# Altium integrated library Capacitor - Aluminium TH.IntLib: 4591 symbols (part 41 of 68)
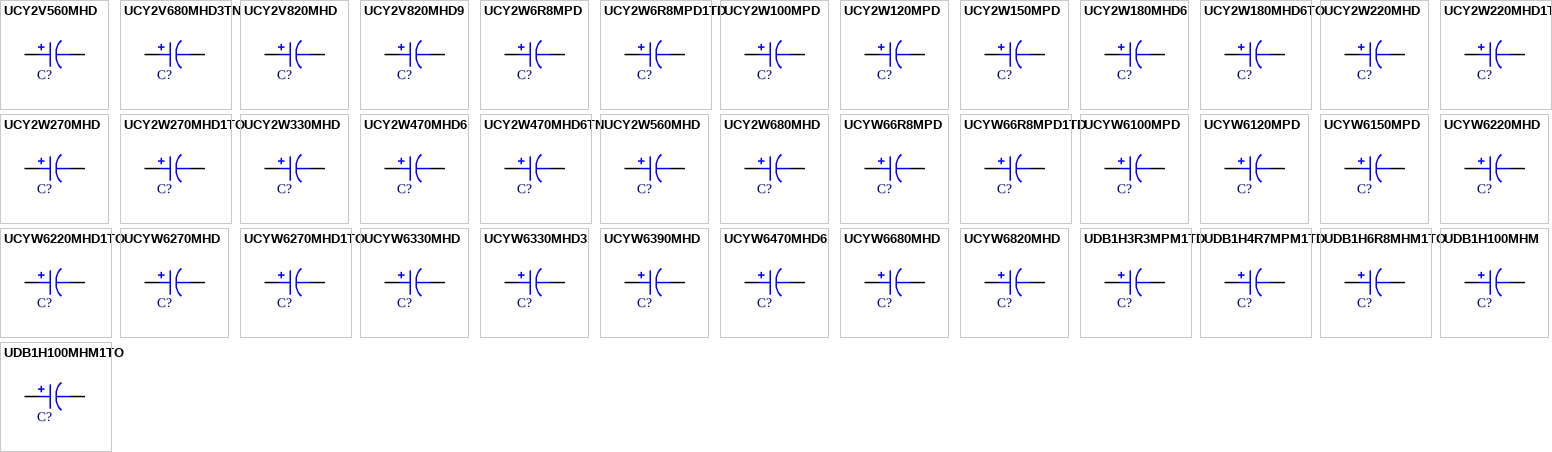
[diagram p154: symbols UCY2V560MHD to UDB1H100MHM1TO]

## UCYW6100MPD
designator C?, comment 10uF  (value not drawn)
CAP ALUM 10UF 20% 420V RADIAL; Part Number: UCYW6100MPD; Manufacturer: Nichicon; TemperatureRange: -25C ~ 105C; Type: Polar; Ripple Current: 135mA @ 120Hz; Value: 10uF; PartId: 25700; Supplier 1: Digi-Key; Supplier Part Number 1: 493-6859-ND; ComponentLink1Description: Datasheet; ComponentLink1URL: http://nichicon-us.com/english/products/pdfs/e-ucy.pdf; ComponentLink2Description: Digi-Key Listing; ComponentLink2URL: https://www.digikey.com/product-detail/en/nichicon/UCYW6100MPD/493-6859-ND/3664428; Tolerance: 20%; Voltage: 420V; Price: 0.86; Device Package: Radial, Can, 10mm
footprint CAP AL TH D10 L5 H22
pins: 1, 2

## UCYW6120MPD
designator C?, comment 12uF  (value not drawn)
CAP ALUM 12UF 20% 420V RADIAL; Part Number: UCYW6120MPD; Manufacturer: Nichicon; TemperatureRange: -25C ~ 105C; Type: Polar; Ripple Current: 150mA @ 120Hz; Value: 12uF; PartId: 25705; Supplier 1: Digi-Key; Supplier Part Number 1: 493-6983-ND; ComponentLink1Description: Datasheet; ComponentLink1URL: http://nichicon-us.com/english/products/pdfs/e-ucy.pdf; ComponentLink2Description: Digi-Key Listing; ComponentLink2URL: https://www.digikey.com/product-detail/en/nichicon/UCYW6120MPD/493-6983-ND/3664484; Tolerance: 20%; Voltage: 420V; Price: 0.92; Device Package: Radial, Can, 10mm
footprint CAP AL TH D10 L5 H22
pins: 1, 2

## UCYW6150MPD
designator C?, comment 15uF  (value not drawn)
CAP ALUM 15UF 20% 420V RADIAL; Part Number: UCYW6150MPD; Manufacturer: Nichicon; TemperatureRange: -25C ~ 105C; Type: Polar; Ripple Current: 185mA @ 120Hz; Value: 15uF; PartId: 26184; Supplier 1: Digi-Key; Supplier Part Number 1: 493-6840-ND; ComponentLink1Description: Datasheet; ComponentLink1URL: http://nichicon-us.com/english/products/pdfs/e-ucy.pdf; ComponentLink2Description: Digi-Key Listing; ComponentLink2URL: https://www.digikey.com/product-detail/en/nichicon/UCYW6150MPD/493-6840-ND/3664439; Tolerance: 20%; Voltage: 420V; Price: 1.01; Device Package: Radial, Can, 10mm
footprint CAP AL TH D10 L5 H30
pins: 1, 2

## UCYW6220MHD
designator C?, comment 22uF  (value not drawn)
CAP ALUM 22UF 20% 420V RADIAL; Part Number: UCYW6220MHD; Manufacturer: Nichicon; TemperatureRange: -25C ~ 105C; Type: Polar; Ripple Current: 285mA @ 120Hz; Value: 22uF; PartId: 23046; Supplier 1: Digi-Key; Supplier Part Number 1: 493-6981-ND; ComponentLink1Description: Datasheet; ComponentLink1URL: http://nichicon-us.com/english/products/pdfs/e-ucy.pdf; ComponentLink2Description: Digi-Key Listing; ComponentLink2URL: https://www.digikey.com/product-detail/en/nichicon/UCYW6220MHD/493-6981-ND/3664448; Tolerance: 20%; Voltage: 420V; Price: 0; Device Package: Radial, Can, 12.5mm
footprint CAP AL TH D12.5 L5 H21.5
pins: 1, 2

## UCYW6220MHD1TO
designator C?, comment 22uF  (value not drawn)
CAP ALUM 22UF 20% 420V RADIAL; Part Number: UCYW6220MHD1TO; Manufacturer: Nichicon; TemperatureRange: -25C ~ 105C; Type: Polar; Ripple Current: 285mA; Value: 22uF; PartId: 23053; Supplier 1: Digi-Key; Supplier Part Number 1: 493-13348-1-ND; ComponentLink1Description: Datasheet; ComponentLink1URL: http://nichicon-us.com/english/products/pdfs/e-ucy.pdf; ComponentLink2Description: Digi-Key Listing; ComponentLink2URL: https://www.digikey.com/product-detail/en/nichicon/UCYW6220MHD1TO/493-13348-1-ND/4333091; Tolerance: 20%; Voltage: 420V; Price: 0; Device Package: Radial, Can, 12.5mm
footprint CAP AL TH D12.5 L5 H21.5
pins: 1, 2

## UCYW6270MHD
designator C?, comment 27uF  (value not drawn)
CAP ALUM 27UF 20% 420V RADIAL; Part Number: UCYW6270MHD; Manufacturer: Nichicon; TemperatureRange: -25C ~ 105C; Type: Polar; Ripple Current: 340mA @ 120Hz; Value: 27uF; PartId: 23061; Supplier 1: Digi-Key; Supplier Part Number 1: 493-6809-ND; ComponentLink1Description: Datasheet; ComponentLink1URL: http://nichicon-us.com/english/products/pdfs/e-ucy.pdf; ComponentLink2Description: Digi-Key Listing; ComponentLink2URL: https://www.digikey.com/product-detail/en/nichicon/UCYW6270MHD/493-6809-ND/3664492; Tolerance: 20%; Voltage: 420V; Price: 0; Device Package: Radial, Can, 12.5mm
footprint CAP AL TH D12.5 L5 H21.5
pins: 1, 2

## UCYW6270MHD1TO
designator C?, comment 27uF  (value not drawn)
CAP ALUM 27UF 20% 420V RADIAL; Part Number: UCYW6270MHD1TO; Manufacturer: Nichicon; TemperatureRange: -25C ~ 105C; Type: Polar; Ripple Current: 340mA @ 120Hz; Value: 27uF; PartId: 23646; Supplier 1: Digi-Key; Supplier Part Number 1: 493-13349-3-ND; ComponentLink1Description: Datasheet; ComponentLink1URL: http://nichicon-us.com/english/products/pdfs/e-ucy.pdf; ComponentLink2Description: Digi-Key Listing; ComponentLink2URL: https://www.digikey.com/product-detail/en/nichicon/UCYW6270MHD1TO/493-13349-3-ND/4332980; Tolerance: 20%; Voltage: 420V; Price: 0.6982; Device Package: Radial, Can, 12.5mm
footprint CAP AL TH D12.5 L5 H26.5
pins: 1, 2

## UCYW6330MHD
designator C?, comment 33uF  (value not drawn)
CAP ALUM 33UF 20% 420V RADIAL; Part Number: UCYW6330MHD; Manufacturer: Nichicon; TemperatureRange: -25C ~ 105C; Type: Polar; Ripple Current: 400mA @ 120Hz; Value: 33uF; PartId: 24396; Supplier 1: Digi-Key; Supplier Part Number 1: 493-6857-ND; ComponentLink1Description: Datasheet; ComponentLink1URL: http://nichicon-us.com/english/products/pdfs/e-ucy.pdf; ComponentLink2Description: Digi-Key Listing; ComponentLink2URL: https://www.digikey.com/product-detail/en/nichicon/UCYW6330MHD/493-6857-ND/3664495; Tolerance: 20%; Voltage: 420V; Price: 1.82; Device Package: Radial, Can, 12.5mm
footprint CAP AL TH D12.5 L5 H35.5
pins: 1, 2

## UCYW6330MHD3
designator C?, comment 33uF  (value not drawn)
CAP ALUM 33UF 20% 420V RADIAL; Part Number: UCYW6330MHD3; Manufacturer: Nichicon; TemperatureRange: -25C ~ 105C; Type: Polar; Ripple Current: 385mA @ 120Hz; Value: 33uF; PartId: 26490; Supplier 1: Digi-Key; Supplier Part Number 1: 493-6896-ND; ComponentLink1Description: Datasheet; ComponentLink1URL: http://nichicon-us.com/english/products/pdfs/e-ucy.pdf; ComponentLink2Description: Digi-Key Listing; ComponentLink2URL: https://www.digikey.com/product-detail/en/nichicon/UCYW6330MHD3/493-6896-ND/3664498; Tolerance: 20%; Voltage: 420V; Price: 1.86; Device Package: Radial, Can, 16mm
footprint CAP AL TH D16 L7.5 H22
pins: 1, 2

## UCYW6390MHD
designator C?, comment 39uF  (value not drawn)
CAP ALUM 39UF 20% 420V RADIAL; Part Number: UCYW6390MHD; Manufacturer: Nichicon; TemperatureRange: -25C ~ 105C; Type: Polar; Ripple Current: 430mA @ 120Hz; Value: 39uF; PartId: 24403; Supplier 1: Digi-Key; Supplier Part Number 1: 493-6867-ND; ComponentLink1Description: Datasheet; ComponentLink1URL: http://nichicon-us.com/english/products/pdfs/e-ucy.pdf; ComponentLink2Description: Digi-Key Listing; ComponentLink2URL: https://www.digikey.com/product-detail/en/nichicon/UCYW6390MHD/493-6867-ND/3664341; Tolerance: 20%; Voltage: 420V; Price: 1.9; Device Package: Radial, Can, 12.5mm
footprint CAP AL TH D12.5 L5 H35.5
pins: 1, 2

## UCYW6470MHD6
designator C?, comment 47uF  (value not drawn)
CAP ALUM 47UF 20% 420V RADIAL; Part Number: UCYW6470MHD6; Manufacturer: Nichicon; TemperatureRange: -25C ~ 105C; Type: Polar; Ripple Current: 500mA @ 120Hz; Value: 47uF; PartId: 26706; Supplier 1: Digi-Key; Supplier Part Number 1: 493-6987-ND; ComponentLink1Description: Datasheet; ComponentLink1URL: http://nichicon-us.com/english/products/pdfs/e-ucy.pdf; ComponentLink2Description: Digi-Key Listing; ComponentLink2URL: https://www.digikey.com/product-detail/en/nichicon/UCYW6470MHD6/493-6987-ND/3664329; Tolerance: 20%; Voltage: 420V; Price: 2.28; Device Package: Radial, Can, 16mm
footprint CAP AL TH D16 L7.5 H26.5
pins: 1, 2

## UCYW6680MHD
designator C?, comment 68uF  (value not drawn)
CAP ALUM 68UF 20% 420V RADIAL; Part Number: UCYW6680MHD; Manufacturer: Nichicon; TemperatureRange: -25C ~ 105C; Type: Polar; Ripple Current: 645mA @ 120Hz; Value: 68uF; PartId: 27261; Supplier 1: Digi-Key; Supplier Part Number 1: 493-6860-ND; ComponentLink1Description: Datasheet; ComponentLink1URL: http://nichicon-us.com/english/products/pdfs/e-ucy.pdf; ComponentLink2Description: Digi-Key Listing; ComponentLink2URL: https://www.digikey.com/product-detail/en/nichicon/UCYW6680MHD/493-6860-ND/3664379; Tolerance: 20%; Voltage: 420V; Price: 2.83; Device Package: Radial, Can, 16mm
footprint CAP AL TH D16 L7.5 H33.5
pins: 1, 2

## UCYW6820MHD
designator C?, comment 82uF  (value not drawn)
CAP ALUM 82UF 20% 420V RADIAL; Part Number: UCYW6820MHD; Manufacturer: Nichicon; TemperatureRange: -25C ~ 105C; Type: Polar; Ripple Current: 725mA @ 120Hz; Value: 82uF; PartId: 27435; Supplier 1: Digi-Key; Supplier Part Number 1: 493-6940-ND; ComponentLink1Description: Datasheet; ComponentLink1URL: http://nichicon-us.com/english/products/pdfs/e-ucy.pdf; ComponentLink2Description: Digi-Key Listing; ComponentLink2URL: https://www.digikey.com/product-detail/en/nichicon/UCYW6820MHD/493-6940-ND/3664402; Tolerance: 20%; Voltage: 420V; Price: 3.3; Device Package: Radial, Can, 16mm
footprint CAP AL TH D16 L7.5 H37
pins: 1, 2

## UDB1H3R3MPM1TD
designator C?, comment 3.3uF  (value not drawn)
CAP ALUM 3.3UF 20% 50V RADIAL; Part Number: UDB1H3R3MPM1TD; Manufacturer: Nichicon; TemperatureRange: -40C ~ 85C; Type: Bi-Polar; Ripple Current: 400mA @ 6kHz; Value: 3.3uF; PartId: 25080; Supplier 1: Digi-Key; Supplier Part Number 1: 493-13361-3-ND; ComponentLink1Description: Datasheet; ComponentLink1URL: http://nichicon-us.com/english/products/pdfs/e-udb.pdf; ComponentLink2Description: Digi-Key Listing; ComponentLink2URL: https://www.digikey.com/product-detail/en/nichicon/UDB1H3R3MPM1TD/493-13361-3-ND/4332992; Tolerance: 20%; Voltage: 50V; Price: 0.2362; Device Package: Radial, Can, 10mm
footprint CAP AL TH D10 L5 H17.5
pins: 1, 2

## UDB1H4R7MPM1TD
designator C?, comment 4.7uF  (value not drawn)
CAP ALUM 4.7UF 20% 50V RADIAL; Part Number: UDB1H4R7MPM1TD; Manufacturer: Nichicon; TemperatureRange: -40C ~ 85C; Type: Bi-Polar; Ripple Current: 480mA @ 4.2Hz; Value: 4.7uF; PartId: 25463; Supplier 1: Digi-Key; Supplier Part Number 1: 493-13362-3-ND; ComponentLink1Description: Datasheet; ComponentLink1URL: http://nichicon-us.com/english/products/pdfs/e-udb.pdf; ComponentLink2Description: Digi-Key Listing; ComponentLink2URL: https://www.digikey.com/product-detail/en/nichicon/UDB1H4R7MPM1TD/493-13362-3-ND/4332993; Tolerance: 20%; Voltage: 50V; Price: 0.2584; Device Package: Radial, Can, 10mm
footprint CAP AL TH D10 L5 H22
pins: 1, 2

## UDB1H6R8MHM1TO
designator C?, comment 6.8uF  (value not drawn)
CAP ALUM 6.8UF 20% 50V RADIAL; Part Number: UDB1H6R8MHM1TO; Manufacturer: Nichicon; TemperatureRange: -40C ~ 85C; Type: Bi-Polar; Ripple Current: 540mA; Value: 6.8uF; PartId: 22954; Supplier 1: Digi-Key; Supplier Part Number 1: 493-13363-1-ND; ComponentLink1Description: Datasheet; ComponentLink1URL: http://nichicon-us.com/english/products/pdfs/e-udb.pdf; ComponentLink2Description: Digi-Key Listing; ComponentLink2URL: https://www.digikey.com/product-detail/en/nichicon/UDB1H6R8MHM1TO/493-13363-1-ND/4333106; Tolerance: 20%; Voltage: 50V; Price: 0; Device Package: Radial, Can, 12.5mm
footprint CAP AL TH D12.5 L5 H21.5
pins: 1, 2

## UDB1H100MHM
designator C?, comment 10uF  (value not drawn)
CAP ALUM 10UF 20% 50V RADIAL; Part Number: UDB1H100MHM; Manufacturer: Nichicon; TemperatureRange: -40C ~ 85C; Type: Bi-Polar; Ripple Current: 600mA @ 2kHz; Value: 10uF; PartId: 23652; Supplier 1: Digi-Key; Supplier Part Number 1: 493-14464-ND; ComponentLink1Description: Datasheet; ComponentLink1URL: http://nichicon-us.com/english/products/pdfs/e-udb.pdf; ComponentLink2Description: Digi-Key Listing; ComponentLink2URL: https://www.digikey.com/product-detail/en/nichicon/UDB1H100MHM/493-14464-ND/2539818; Tolerance: 20%; Voltage: 50V; Price: 0.85; Device Package: Radial, Can, 12.5mm
footprint CAP AL TH D12.5 L5 H26.5
pins: 1, 2

## UDB1H100MHM1TO
designator C?, comment 10uF  (value not drawn)
CAP ALUM 10UF 20% 50V RADIAL; Part Number: UDB1H100MHM1TO; Manufacturer: Nichicon; TemperatureRange: -40C ~ 85C; Type: Bi-Polar; Ripple Current: 600mA; Value: 10uF; PartId: 22972; Supplier 1: Digi-Key; Supplier Part Number 1: 493-13356-1-ND; ComponentLink1Description: Datasheet; ComponentLink1URL: http://nichicon-us.com/english/products/pdfs/e-udb.pdf; ComponentLink2Description: Digi-Key Listing; ComponentLink2URL: https://www.digikey.com/product-detail/en/nichicon/UDB1H100MHM1TO/493-13356-1-ND/4333099; Tolerance: 20%; Voltage: 50V; Price: 0; Device Package: Radial, Can, 12.5mm
footprint CAP AL TH D12.5 L5 H21.5
pins: 1, 2

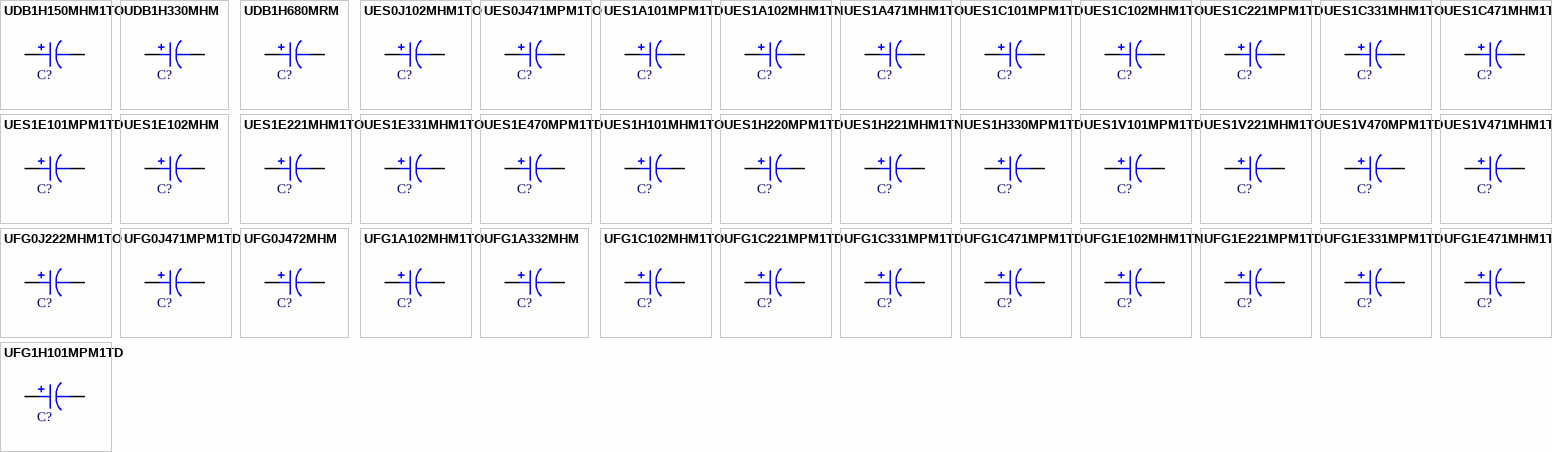
[diagram p67: symbols UDB1H150MHM1TO to UFG1H101MPM1TD]

## UDB1H150MHM1TO
designator C?, comment 15uF  (value not drawn)
CAP ALUM 15UF 20% 50V RADIAL; Part Number: UDB1H150MHM1TO; Manufacturer: Nichicon; TemperatureRange: -40C ~ 85C; Type: Bi-Polar; Ripple Current: 660mA @ 1.3kHz; Value: 15uF; PartId: 23622; Supplier 1: Digi-Key; Supplier Part Number 1: 493-13357-3-ND; ComponentLink1Description: Datasheet; ComponentLink1URL: http://nichicon-us.com/english/products/pdfs/e-udb.pdf; ComponentLink2Description: Digi-Key Listing; ComponentLink2URL: https://www.digikey.com/product-detail/en/nichicon/UDB1H150MHM1TO/493-13357-3-ND/4332988; Tolerance: 20%; Voltage: 50V; Price: 0.3333; Device Package: Radial, Can, 12.5mm
footprint CAP AL TH D12.5 L5 H26.5
pins: 1, 2

## UDB1H330MHM
designator C?, comment 33uF  (value not drawn)
CAP ALUM 33UF 20% 50V RADIAL; Part Number: UDB1H330MHM; Manufacturer: Nichicon; TemperatureRange: -40C ~ 85C; Type: Bi-Polar; Ripple Current: 800mA @ 600Hz; Value: 33uF; PartId: 27160; Supplier 1: Digi-Key; Supplier Part Number 1: 493-13082-ND; ComponentLink1Description: Datasheet; ComponentLink1URL: http://nichicon-us.com/english/products/pdfs/e-udb.pdf; ComponentLink2Description: Digi-Key Listing; ComponentLink2URL: https://www.digikey.com/product-detail/en/nichicon/UDB1H330MHM/493-13082-ND/2597780; Tolerance: 20%; Voltage: 50V; Price: 1.87; Device Package: Radial, Can, 16mm
footprint CAP AL TH D16 L7.5 H33.5
pins: 1, 2

## UDB1H680MRM
designator C?, comment 68uF  (value not drawn)
CAP ALUM 68UF 20% 50V RADIAL; Part Number: UDB1H680MRM; Manufacturer: Nichicon; TemperatureRange: -40C ~ 85C; Type: Bi-Polar; Ripple Current: 1.2A @ 290Hz; Value: 68uF; PartId: 27590; Supplier 1: Digi-Key; Supplier Part Number 1: 493-13084-ND; ComponentLink1Description: Datasheet; ComponentLink1URL: http://nichicon-us.com/english/products/pdfs/e-udb.pdf; ComponentLink2Description: Digi-Key Listing; ComponentLink2URL: https://www.digikey.com/product-detail/en/nichicon/UDB1H680MRM/493-13084-ND/2597784; Tolerance: 20%; Voltage: 50V; Price: 3.37; Device Package: Radial, Can, 22mm
footprint CAP AL TH D22 L10 H43
pins: 1, 2

## UES0J102MHM1TO
designator C?, comment 1000uF  (value not drawn)
CAP ALUM 1000UF 20% 6.3V RADIAL; Part Number: UES0J102MHM1TO; Manufacturer: Nichicon; TemperatureRange: -40C ~ 85C; Type: Bi-Polar; Value: 1000uF; PartId: 23659; Supplier 1: Digi-Key; Supplier Part Number 1: 493-10801-1-ND; ComponentLink1Description: Datasheet; ComponentLink1URL: http://nichicon-us.com/english/products/pdfs/e-ues.pdf; ComponentLink2Description: Digi-Key Listing; ComponentLink2URL: https://www.digikey.com/product-detail/en/nichicon/UES0J102MHM1TO/493-10801-1-ND/4317777; Tolerance: 20%; Voltage: 6.3V; Price: 0.91; Device Package: Radial, Can, 12.5mm
footprint CAP AL TH D12.5 L5 H26.5
pins: 1, 2

## UES0J471MPM1TO
designator C?, comment 470uF  (value not drawn)
CAP ALUM 470UF 20% 6.3V RADIAL; Part Number: UES0J471MPM1TO; Manufacturer: Nichicon; TemperatureRange: -40C ~ 85C; Type: Bi-Polar; Value: 470uF; PartId: 25479; Supplier 1: Digi-Key; Supplier Part Number 1: 493-10806-3-ND; ComponentLink1Description: Datasheet; ComponentLink1URL: http://nichicon-us.com/english/products/pdfs/e-ues.pdf; ComponentLink2Description: Digi-Key Listing; ComponentLink2URL: https://www.digikey.com/product-detail/en/nichicon/UES0J471MPM1TO/493-10806-3-ND/4318016; Tolerance: 20%; Voltage: 6.3V; Price: 0.3148; Device Package: Radial, Can, 10mm
footprint CAP AL TH D10 L5 H22
pins: 1, 2

## UES1A101MPM1TD
designator C?, comment 100uF  (value not drawn)
CAP ALUM 100UF 20% 10V RADIAL; Part Number: UES1A101MPM1TD; Manufacturer: Nichicon; TemperatureRange: -40C ~ 85C; Type: Bi-Polar; Value: 100uF; PartId: 24598; Supplier 1: Digi-Key; Supplier Part Number 1: 493-10807-3-ND; ComponentLink1Description: Datasheet; ComponentLink1URL: http://nichicon-us.com/english/products/pdfs/e-ues.pdf; ComponentLink2Description: Digi-Key Listing; ComponentLink2URL: https://www.digikey.com/product-detail/en/nichicon/UES1A101MPM1TD/493-10807-3-ND/4317384; Tolerance: 20%; Voltage: 10V; Price: 0.1736; Device Package: Radial, Can, 10mm
footprint CAP AL TH D10 L5 H14.5
pins: 1, 2

## UES1A102MHM1TN
designator C?, comment 1000uF  (value not drawn)
CAP ALUM 1000UF 20% 10V RADIAL; Part Number: UES1A102MHM1TN; Manufacturer: Nichicon; TemperatureRange: -40C ~ 85C; Type: Bi-Polar; Value: 1000uF; PartId: 26510; Supplier 1: Digi-Key; Supplier Part Number 1: 493-10808-3-ND; ComponentLink1Description: Datasheet; ComponentLink1URL: http://nichicon-us.com/english/products/pdfs/e-ues.pdf; ComponentLink2Description: Digi-Key Listing; ComponentLink2URL: https://www.digikey.com/product-detail/en/nichicon/UES1A102MHM1TN/493-10808-3-ND/4317385; Tolerance: 20%; Voltage: 10V; Price: 0.4886; Device Package: Radial, Can, 16mm
footprint CAP AL TH D16 L7.5 H26.5
pins: 1, 2

## UES1A471MHM1TO
designator C?, comment 470uF  (value not drawn)
CAP ALUM 470UF 20% 10V RADIAL; Part Number: UES1A471MHM1TO; Manufacturer: Nichicon; TemperatureRange: -40C ~ 85C; Type: Bi-Polar; Value: 470uF; PartId: 22961; Supplier 1: Digi-Key; Supplier Part Number 1: 493-10814-1-ND; ComponentLink1Description: Datasheet; ComponentLink1URL: http://nichicon-us.com/english/products/pdfs/e-ues.pdf; ComponentLink2Description: Digi-Key Listing; ComponentLink2URL: https://www.digikey.com/product-detail/en/nichicon/UES1A471MHM1TO/493-10814-1-ND/4317789; Tolerance: 20%; Voltage: 10V; Price: 0; Device Package: Radial, Can, 12.5mm
footprint CAP AL TH D12.5 L5 H21.5
pins: 1, 2

## UES1C101MPM1TD
designator C?, comment 100uF  (value not drawn)
CAP ALUM 100UF 20% 16V RADIAL; Part Number: UES1C101MPM1TD; Manufacturer: Nichicon; TemperatureRange: -40C ~ 85C; Type: Bi-Polar; Value: 100uF; PartId: 24620; Supplier 1: Digi-Key; Supplier Part Number 1: 493-10816-3-ND; ComponentLink1Description: Datasheet; ComponentLink1URL: http://nichicon-us.com/english/products/pdfs/e-ues.pdf; ComponentLink2Description: Digi-Key Listing; ComponentLink2URL: https://www.digikey.com/product-detail/en/nichicon/UES1C101MPM1TD/493-10816-3-ND/4317393; Tolerance: 20%; Voltage: 16V; Price: 0.2038; Device Package: Radial, Can, 10mm
footprint CAP AL TH D10 L5 H14.5
pins: 1, 2

## UES1C102MHM1TO
designator C?, comment 1000uF  (value not drawn)
CAP ALUM 1000UF 20% 16V RADIAL; Part Number: UES1C102MHM1TO; Manufacturer: Nichicon; TemperatureRange: -40C ~ 85C; Type: Bi-Polar; Value: 1000uF; PartId: 26518; Supplier 1: Digi-Key; Supplier Part Number 1: 493-10817-3-ND; ComponentLink1Description: Datasheet; ComponentLink1URL: http://nichicon-us.com/english/products/pdfs/e-ues.pdf; ComponentLink2Description: Digi-Key Listing; ComponentLink2URL: https://www.digikey.com/product-detail/en/nichicon/UES1C102MHM1TO/493-10817-3-ND/4317394; Tolerance: 20%; Voltage: 16V; Price: 0.6304; Device Package: Radial, Can, 16mm
footprint CAP AL TH D16 L7.5 H26.5
pins: 1, 2

## UES1C221MPM1TD
designator C?, comment 220uF  (value not drawn)
CAP ALUM 220UF 20% 16V RADIAL; Part Number: UES1C221MPM1TD; Manufacturer: Nichicon; TemperatureRange: -40C ~ 85C; Type: Bi-Polar; Value: 220uF; PartId: 25480; Supplier 1: Digi-Key; Supplier Part Number 1: 493-10819-3-ND; ComponentLink1Description: Datasheet; ComponentLink1URL: http://nichicon-us.com/english/products/pdfs/e-ues.pdf; ComponentLink2Description: Digi-Key Listing; ComponentLink2URL: https://www.digikey.com/product-detail/en/nichicon/UES1C221MPM1TD/493-10819-3-ND/4317396; Tolerance: 20%; Voltage: 16V; Price: 0.3184; Device Package: Radial, Can, 10mm
footprint CAP AL TH D10 L5 H22
pins: 1, 2

## UES1C331MHM1TO
designator C?, comment 330uF  (value not drawn)
CAP ALUM 330UF 20% 16V RADIAL; Part Number: UES1C331MHM1TO; Manufacturer: Nichicon; TemperatureRange: -40C ~ 85C; Type: Bi-Polar; Value: 330uF; PartId: 22962; Supplier 1: Digi-Key; Supplier Part Number 1: 493-10821-1-ND; ComponentLink1Description: Datasheet; ComponentLink1URL: http://nichicon-us.com/english/products/pdfs/e-ues.pdf; ComponentLink2Description: Digi-Key Listing; ComponentLink2URL: https://www.digikey.com/product-detail/en/nichicon/UES1C331MHM1TO/493-10821-1-ND/4317796; Tolerance: 20%; Voltage: 16V; Price: 0; Device Package: Radial, Can, 12.5mm
footprint CAP AL TH D12.5 L5 H21.5
pins: 1, 2

## UES1C471MHM1TO
designator C?, comment 470uF  (value not drawn)
CAP ALUM 470UF 20% 16V RADIAL; Part Number: UES1C471MHM1TO; Manufacturer: Nichicon; TemperatureRange: -40C ~ 85C; Type: Bi-Polar; Value: 470uF; PartId: 23626; Supplier 1: Digi-Key; Supplier Part Number 1: 493-10823-3-ND; ComponentLink1Description: Datasheet; ComponentLink1URL: http://nichicon-us.com/english/products/pdfs/e-ues.pdf; ComponentLink2Description: Digi-Key Listing; ComponentLink2URL: https://www.digikey.com/product-detail/en/nichicon/UES1C471MHM1TO/493-10823-3-ND/4317400; Tolerance: 20%; Voltage: 16V; Price: 0.3495; Device Package: Radial, Can, 12.5mm
footprint CAP AL TH D12.5 L5 H26.5
pins: 1, 2

## UES1E101MPM1TD
designator C?, comment 100uF  (value not drawn)
CAP ALUM 100UF 20% 25V RADIAL; Part Number: UES1E101MPM1TD; Manufacturer: Nichicon; TemperatureRange: -40C ~ 85C; Type: Bi-Polar; Value: 100uF; PartId: 25079; Supplier 1: Digi-Key; Supplier Part Number 1: 493-10825-3-ND; ComponentLink1Description: Datasheet; ComponentLink1URL: http://nichicon-us.com/english/products/pdfs/e-ues.pdf; ComponentLink2Description: Digi-Key Listing; ComponentLink2URL: https://www.digikey.com/product-detail/en/nichicon/UES1E101MPM1TD/493-10825-3-ND/4317402; Tolerance: 20%; Voltage: 25V; Price: 0.2336; Device Package: Radial, Can, 10mm
footprint CAP AL TH D10 L5 H17.5
pins: 1, 2

## UES1E102MHM
designator C?, comment 1000uF  (value not drawn)
CAP ALUM 1000UF 20% 25V RADIAL; Part Number: UES1E102MHM; Manufacturer: Nichicon; TemperatureRange: -40C ~ 85C; Type: Bi-Polar; Value: 1000uF; PartId: 27006; Supplier 1: Digi-Key; Supplier Part Number 1: 493-10826-ND; ComponentLink1Description: Datasheet; ComponentLink1URL: http://nichicon-us.com/english/products/pdfs/e-ues.pdf; ComponentLink2Description: Digi-Key Listing; ComponentLink2URL: https://www.digikey.com/product-detail/en/nichicon/UES1E102MHM/493-10826-ND/2597891; Tolerance: 20%; Voltage: 25V; Price: 1.38; Device Package: Radial, Can, 16mm
footprint CAP AL TH D16 L7.5 H33.5
pins: 1, 2

## UES1E221MHM1TO
designator C?, comment 220uF  (value not drawn)
CAP ALUM 220UF 20% 25V RADIAL; Part Number: UES1E221MHM1TO; Manufacturer: Nichicon; TemperatureRange: -40C ~ 85C; Type: Bi-Polar; Value: 220uF; PartId: 23624; Supplier 1: Digi-Key; Supplier Part Number 1: 493-10828-3-ND; ComponentLink1Description: Datasheet; ComponentLink1URL: http://nichicon-us.com/english/products/pdfs/e-ues.pdf; ComponentLink2Description: Digi-Key Listing; ComponentLink2URL: https://www.digikey.com/product-detail/en/nichicon/UES1E221MHM1TO/493-10828-3-ND/4317404; Tolerance: 20%; Voltage: 25V; Price: 0.3432; Device Package: Radial, Can, 12.5mm
footprint CAP AL TH D12.5 L5 H26.5
pins: 1, 2

## UES1E331MHM1TO
designator C?, comment 330uF  (value not drawn)
CAP ALUM 330UF 20% 25V RADIAL; Part Number: UES1E331MHM1TO; Manufacturer: Nichicon; TemperatureRange: -40C ~ 85C; Type: Bi-Polar; Value: 330uF; PartId: 23673; Supplier 1: Digi-Key; Supplier Part Number 1: 493-10830-1-ND; ComponentLink1Description: Datasheet; ComponentLink1URL: http://nichicon-us.com/english/products/pdfs/e-ues.pdf; ComponentLink2Description: Digi-Key Listing; ComponentLink2URL: https://www.digikey.com/product-detail/en/nichicon/UES1E331MHM1TO/493-10830-1-ND/4317804; Tolerance: 20%; Voltage: 25V; Price: 0.99; Device Package: Radial, Can, 12.5mm
footprint CAP AL TH D12.5 L5 H26.5
pins: 1, 2

## UES1E470MPM1TD
designator C?, comment 47uF  (value not drawn)
CAP ALUM 47UF 20% 25V RADIAL; Part Number: UES1E470MPM1TD; Manufacturer: Nichicon; TemperatureRange: -40C ~ 85C; Type: Bi-Polar; Value: 47uF; PartId: 24621; Supplier 1: Digi-Key; Supplier Part Number 1: 493-10831-3-ND; ComponentLink1Description: Datasheet; ComponentLink1URL: http://nichicon-us.com/english/products/pdfs/e-ues.pdf; ComponentLink2Description: Digi-Key Listing; ComponentLink2URL: https://www.digikey.com/product-detail/en/nichicon/UES1E470MPM1TD/493-10831-3-ND/4317407; Tolerance: 20%; Voltage: 25V; Price: 0.2052; Device Package: Radial, Can, 10mm
footprint CAP AL TH D10 L5 H14.5
pins: 1, 2

## UES1H101MHM1TO
designator C?, comment 100uF  (value not drawn)
CAP ALUM 100UF 20% 50V RADIAL; Part Number: UES1H101MHM1TO; Manufacturer: Nichicon; TemperatureRange: -40C ~ 85C; Type: Bi-Polar; Value: 100uF; PartId: 23631; Supplier 1: Digi-Key; Supplier Part Number 1: 493-10836-3-ND; ComponentLink1Description: Datasheet; ComponentLink1URL: http://nichicon-us.com/english/products/pdfs/e-ues.pdf; ComponentLink2Description: Digi-Key Listing; ComponentLink2URL: https://www.digikey.com/product-detail/en/nichicon/UES1H101MHM1TO/493-10836-3-ND/4317412; Tolerance: 20%; Voltage: 50V; Price: 0.4379; Device Package: Radial, Can, 12.5mm
footprint CAP AL TH D12.5 L5 H26.5
pins: 1, 2

## UES1H220MPM1TD
designator C?, comment 22uF  (value not drawn)
CAP ALUM 22UF 20% 50V RADIAL; Part Number: UES1H220MPM1TD; Manufacturer: Nichicon; TemperatureRange: -40C ~ 85C; Type: Bi-Polar; Value: 22uF; PartId: 24619; Supplier 1: Digi-Key; Supplier Part Number 1: 493-10837-3-ND; ComponentLink1Description: Datasheet; ComponentLink1URL: http://nichicon-us.com/english/products/pdfs/e-ues.pdf; ComponentLink2Description: Digi-Key Listing; ComponentLink2URL: https://www.digikey.com/product-detail/en/nichicon/UES1H220MPM1TD/493-10837-3-ND/4317413; Tolerance: 20%; Voltage: 50V; Price: 0.1994; Device Package: Radial, Can, 10mm
footprint CAP AL TH D10 L5 H14.5
pins: 1, 2

## UES1H221MHM1TN
designator C?, comment 220uF  (value not drawn)
CAP ALUM 220UF 20% 50V RADIAL; Part Number: UES1H221MHM1TN; Manufacturer: Nichicon; TemperatureRange: -40C ~ 85C; Type: Bi-Polar; Value: 220uF; PartId: 26525; Supplier 1: Digi-Key; Supplier Part Number 1: 493-10838-3-ND; ComponentLink1Description: Datasheet; ComponentLink1URL: http://nichicon-us.com/english/products/pdfs/e-ues.pdf; ComponentLink2Description: Digi-Key Listing; ComponentLink2URL: https://www.digikey.com/product-detail/en/nichicon/UES1H221MHM1TN/493-10838-3-ND/4317414; Tolerance: 20%; Voltage: 50V; Price: 0.6998; Device Package: Radial, Can, 16mm
footprint CAP AL TH D16 L7.5 H26.5
pins: 1, 2

## UES1H330MPM1TD
designator C?, comment 33uF  (value not drawn)
CAP ALUM 33UF 20% 50V RADIAL; Part Number: UES1H330MPM1TD; Manufacturer: Nichicon; TemperatureRange: -40C ~ 85C; Type: Bi-Polar; Value: 33uF; PartId: 25072; Supplier 1: Digi-Key; Supplier Part Number 1: 493-10840-3-ND; ComponentLink1Description: Datasheet; ComponentLink1URL: http://nichicon-us.com/english/products/pdfs/e-ues.pdf; ComponentLink2Description: Digi-Key Listing; ComponentLink2URL: https://www.digikey.com/product-detail/en/nichicon/UES1H330MPM1TD/493-10840-3-ND/4317416; Tolerance: 20%; Voltage: 50V; Price: 0.232; Device Package: Radial, Can, 10mm
footprint CAP AL TH D10 L5 H17.5
pins: 1, 2

## UES1V101MPM1TD
designator C?, comment 100uF  (value not drawn)
CAP ALUM 100UF 20% 35V RADIAL; Part Number: UES1V101MPM1TD; Manufacturer: Nichicon; TemperatureRange: -40C ~ 85C; Type: Bi-Polar; Value: 100uF; PartId: 25478; Supplier 1: Digi-Key; Supplier Part Number 1: 493-10847-3-ND; ComponentLink1Description: Datasheet; ComponentLink1URL: http://nichicon-us.com/english/products/pdfs/e-ues.pdf; ComponentLink2Description: Digi-Key Listing; ComponentLink2URL: https://www.digikey.com/product-detail/en/nichicon/UES1V101MPM1TD/493-10847-3-ND/4317422; Tolerance: 20%; Voltage: 35V; Price: 0.3148; Device Package: Radial, Can, 10mm
footprint CAP AL TH D10 L5 H22
pins: 1, 2

## UES1V221MHM1TO
designator C?, comment 220uF  (value not drawn)
CAP ALUM 220UF 20% 35V RADIAL; Part Number: UES1V221MHM1TO; Manufacturer: Nichicon; TemperatureRange: -40C ~ 85C; Type: Bi-Polar; Value: 220uF; PartId: 23690; Supplier 1: Digi-Key; Supplier Part Number 1: 493-10849-1-ND; ComponentLink1Description: Datasheet; ComponentLink1URL: http://nichicon-us.com/english/products/pdfs/e-ues.pdf; ComponentLink2Description: Digi-Key Listing; ComponentLink2URL: https://www.digikey.com/product-detail/en/nichicon/UES1V221MHM1TO/493-10849-1-ND/4317822; Tolerance: 20%; Voltage: 35V; Price: 1.04; Device Package: Radial, Can, 12.5mm
footprint CAP AL TH D12.5 L5 H26.5
pins: 1, 2

## UES1V470MPM1TD
designator C?, comment 47uF  (value not drawn)
CAP ALUM 47UF 20% 35V RADIAL; Part Number: UES1V470MPM1TD; Manufacturer: Nichicon; TemperatureRange: -40C ~ 85C; Type: Bi-Polar; Value: 47uF; PartId: 24633; Supplier 1: Digi-Key; Supplier Part Number 1: 493-10852-3-ND; ComponentLink1Description: Datasheet; ComponentLink1URL: http://nichicon-us.com/english/products/pdfs/e-ues.pdf; ComponentLink2Description: Digi-Key Listing; ComponentLink2URL: https://www.digikey.com/product-detail/en/nichicon/UES1V470MPM1TD/493-10852-3-ND/4317427; Tolerance: 20%; Voltage: 35V; Price: 0.229; Device Package: Radial, Can, 10mm
footprint CAP AL TH D10 L5 H14.5
pins: 1, 2

## UES1V471MHM1TN
designator C?, comment 470uF  (value not drawn)
CAP ALUM 470UF 20% 35V RADIAL; Part Number: UES1V471MHM1TN; Manufacturer: Nichicon; TemperatureRange: -40C ~ 85C; Type: Bi-Polar; Value: 470uF; PartId: 26519; Supplier 1: Digi-Key; Supplier Part Number 1: 493-10853-3-ND; ComponentLink1Description: Datasheet; ComponentLink1URL: http://nichicon-us.com/english/products/pdfs/e-ues.pdf; ComponentLink2Description: Digi-Key Listing; ComponentLink2URL: https://www.digikey.com/product-detail/en/nichicon/UES1V471MHM1TN/493-10853-3-ND/4317428; Tolerance: 20%; Voltage: 35V; Price: 0.6388; Device Package: Radial, Can, 16mm
footprint CAP AL TH D16 L7.5 H26.5
pins: 1, 2

## UFG0J222MHM1TO
designator C?, comment 2200uF  (value not drawn)
CAP ALUM 2200UF 20% 6.3V RADIAL; Part Number: UFG0J222MHM1TO; Manufacturer: Nichicon; TemperatureRange: -40C ~ 85C; Type: Polar; Ripple Current: 867mA; Value: 2200uF; PartId: 23815; Supplier 1: Digi-Key; Supplier Part Number 1: 493-10908-3-ND; ComponentLink1Description: Datasheet; ComponentLink1URL: http://nichicon-us.com/english/products/pdfs/e-ufg.pdf; ComponentLink2Description: Digi-Key Listing; ComponentLink2URL: https://www.digikey.com/product-detail/en/nichicon/UFG0J222MHM1TO/493-10908-3-ND/4317437; Tolerance: 20%; Voltage: 6.3V; Price: 0.4279; Device Package: Radial, Can, 12.5mm
footprint CAP AL TH D12.5 L5 H27
pins: 1, 2

## UFG0J471MPM1TD
designator C?, comment 470uF  (value not drawn)
CAP ALUM 470UF 20% 6.3V RADIAL; Part Number: UFG0J471MPM1TD; Manufacturer: Nichicon; TemperatureRange: -40C ~ 85C; Type: Polar; Ripple Current: 470mA; Value: 470uF; PartId: 24614; Supplier 1: Digi-Key; Supplier Part Number 1: 493-10923-3-ND; ComponentLink1Description: Datasheet; ComponentLink1URL: http://nichicon-us.com/english/products/pdfs/e-ufg.pdf; ComponentLink2Description: Digi-Key Listing; ComponentLink2URL: https://www.digikey.com/product-detail/en/nichicon/UFG0J471MPM1TD/493-10923-3-ND/4317452; Tolerance: 20%; Voltage: 6.3V; Price: 0.1976; Device Package: Radial, Can, 10mm
footprint CAP AL TH D10 L5 H14.5
pins: 1, 2

## UFG0J472MHM
designator C?, comment 4700uF  (value not drawn)
CAP ALUM 4700UF 20% 6.3V RADIAL; Part Number: UFG0J472MHM; Manufacturer: Nichicon; TemperatureRange: -40C ~ 85C; Type: Polar; Ripple Current: 1.431A; Value: 4700uF; PartId: 27057; Supplier 1: Digi-Key; Supplier Part Number 1: 493-10902-ND; ComponentLink1Description: Datasheet; ComponentLink1URL: http://nichicon-us.com/english/products/pdfs/e-ufg.pdf; ComponentLink2Description: Digi-Key Listing; ComponentLink2URL: https://www.digikey.com/product-detail/en/nichicon/UFG0J472MHM/493-10902-ND/2597923; Tolerance: 20%; Voltage: 6.3V; Price: 1.58; Device Package: Radial, Can, 16mm
footprint CAP AL TH D16 L7.5 H33.5
pins: 1, 2

## UFG1A102MHM1TO
designator C?, comment 1000uF  (value not drawn)
CAP ALUM 1000UF 20% 10V RADIAL; Part Number: UFG1A102MHM1TO; Manufacturer: Nichicon; TemperatureRange: -40C ~ 85C; Type: Polar; Ripple Current: 601mA; Value: 1000uF; PartId: 23408; Supplier 1: Digi-Key; Supplier Part Number 1: 493-10912-1-ND; ComponentLink1Description: Datasheet; ComponentLink1URL: http://nichicon-us.com/english/products/pdfs/e-ufg.pdf; ComponentLink2Description: Digi-Key Listing; ComponentLink2URL: https://www.digikey.com/product-detail/en/nichicon/UFG1A102MHM1TO/493-10912-1-ND/4317839; Tolerance: 20%; Voltage: 10V; Price: 0.98; Device Package: Radial, Can, 12.5mm
footprint CAP AL TH D12.5 L5 H22
pins: 1, 2

## UFG1A332MHM
designator C?, comment 3300uF  (value not drawn)
CAP ALUM 3300UF 20% 10V RADIAL; Part Number: UFG1A332MHM; Manufacturer: Nichicon; TemperatureRange: -40C ~ 85C; Type: Polar; Ripple Current: 1.52A; Value: 3300uF; PartId: 27056; Supplier 1: Digi-Key; Supplier Part Number 1: 493-10903-ND; ComponentLink1Description: Datasheet; ComponentLink1URL: http://nichicon-us.com/english/products/pdfs/e-ufg.pdf; ComponentLink2Description: Digi-Key Listing; ComponentLink2URL: https://www.digikey.com/product-detail/en/nichicon/UFG1A332MHM/493-10903-ND/2597930; Tolerance: 20%; Voltage: 10V; Price: 1.58; Device Package: Radial, Can, 16mm
footprint CAP AL TH D16 L7.5 H33.5
pins: 1, 2

## UFG1C102MHM1TO
designator C?, comment 1000uF  (value not drawn)
CAP ALUM 1000UF 20% 16V RADIAL; Part Number: UFG1C102MHM1TO; Manufacturer: Nichicon; TemperatureRange: -40C ~ 85C; Type: Polar; Ripple Current: 723mA; Value: 1000uF; PartId: 24030; Supplier 1: Digi-Key; Supplier Part Number 1: 493-10907-1-ND; ComponentLink1Description: Datasheet; ComponentLink1URL: http://nichicon-us.com/english/products/pdfs/e-ufg.pdf; ComponentLink2Description: Digi-Key Listing; ComponentLink2URL: https://www.digikey.com/product-detail/en/nichicon/UFG1C102MHM1TO/493-10907-1-ND/4317834; Tolerance: 20%; Voltage: 16V; Price: 1.09; Device Package: Radial, Can, 12.5mm
footprint CAP AL TH D12.5 L5 H27
pins: 1, 2

## UFG1C221MPM1TD
designator C?, comment 220uF  (value not drawn)
CAP ALUM 220UF 20% 16V RADIAL; Part Number: UFG1C221MPM1TD; Manufacturer: Nichicon; TemperatureRange: -40C ~ 85C; Type: Polar; Ripple Current: 226mA; Value: 220uF; PartId: 24623; Supplier 1: Digi-Key; Supplier Part Number 1: 493-10922-3-ND; ComponentLink1Description: Datasheet; ComponentLink1URL: http://nichicon-us.com/english/products/pdfs/e-ufg.pdf; ComponentLink2Description: Digi-Key Listing; ComponentLink2URL: https://www.digikey.com/product-detail/en/nichicon/UFG1C221MPM1TD/493-10922-3-ND/4317451; Tolerance: 20%; Voltage: 16V; Price: 0.208; Device Package: Radial, Can, 10mm
footprint CAP AL TH D10 L5 H14.5
pins: 1, 2

## UFG1C331MPM1TD
designator C?, comment 330uF  (value not drawn)
CAP ALUM 330UF 20% 16V RADIAL; Part Number: UFG1C331MPM1TD; Manufacturer: Nichicon; TemperatureRange: -40C ~ 85C; Type: Polar; Ripple Current: 309mA; Value: 330uF; PartId: 25115; Supplier 1: Digi-Key; Supplier Part Number 1: 493-10921-3-ND; ComponentLink1Description: Datasheet; ComponentLink1URL: http://nichicon-us.com/english/products/pdfs/e-ufg.pdf; ComponentLink2Description: Digi-Key Listing; ComponentLink2URL: https://www.digikey.com/product-detail/en/nichicon/UFG1C331MPM1TD/493-10921-3-ND/4317450; Tolerance: 20%; Voltage: 16V; Price: 0.3093; Device Package: Radial, Can, 10mm
footprint CAP AL TH D10 L5 H17.5
pins: 1, 2

## UFG1C471MPM1TD
designator C?, comment 470uF  (value not drawn)
CAP ALUM 470UF 20% 16V RADIAL; Part Number: UFG1C471MPM1TD; Manufacturer: Nichicon; TemperatureRange: -40C ~ 85C; Type: Polar; Ripple Current: 406mA; Value: 470uF; PartId: 25808; Supplier 1: Digi-Key; Supplier Part Number 1: 493-10915-3-ND; ComponentLink1Description: Datasheet; ComponentLink1URL: http://nichicon-us.com/english/products/pdfs/e-ufg.pdf; ComponentLink2Description: Digi-Key Listing; ComponentLink2URL: https://www.digikey.com/product-detail/en/nichicon/UFG1C471MPM1TD/493-10915-3-ND/4317444; Tolerance: 20%; Voltage: 16V; Price: 0.3276; Device Package: Radial, Can, 10mm
footprint CAP AL TH D10 L5 H22
pins: 1, 2

## UFG1E102MHM1TN
designator C?, comment 1000uF  (value not drawn)
CAP ALUM 1000UF 20% 25V RADIAL; Part Number: UFG1E102MHM1TN; Manufacturer: Nichicon; TemperatureRange: -40C ~ 85C; Type: Polar; Ripple Current: 854mA; Value: 1000uF; PartId: 26795; Supplier 1: Digi-Key; Supplier Part Number 1: 493-10887-3-ND; ComponentLink1Description: Datasheet; ComponentLink1URL: http://nichicon-us.com/english/products/pdfs/e-ufg.pdf; ComponentLink2Description: Digi-Key Listing; ComponentLink2URL: https://www.digikey.com/product-detail/en/nichicon/UFG1E102MHM1TN/493-10887-3-ND/4317433; Tolerance: 20%; Voltage: 25V; Price: 0.7072; Device Package: Radial, Can, 16mm
footprint CAP AL TH D16 L7.5 H27
pins: 1, 2

## UFG1E221MPM1TD
designator C?, comment 220uF  (value not drawn)
CAP ALUM 220UF 20% 25V RADIAL; Part Number: UFG1E221MPM1TD; Manufacturer: Nichicon; TemperatureRange: -40C ~ 85C; Type: Polar; Ripple Current: 260mA; Value: 220uF; PartId: 25121; Supplier 1: Digi-Key; Supplier Part Number 1: 493-10918-3-ND; ComponentLink1Description: Datasheet; ComponentLink1URL: http://nichicon-us.com/english/products/pdfs/e-ufg.pdf; ComponentLink2Description: Digi-Key Listing; ComponentLink2URL: https://www.digikey.com/product-detail/en/nichicon/UFG1E221MPM1TD/493-10918-3-ND/4317447; Tolerance: 20%; Voltage: 25V; Price: 0.3258; Device Package: Radial, Can, 10mm
footprint CAP AL TH D10 L5 H17.5
pins: 1, 2

## UFG1E331MPM1TD
designator C?, comment 330uF  (value not drawn)
CAP ALUM 330UF 20% 25V RADIAL; Part Number: UFG1E331MPM1TD; Manufacturer: Nichicon; TemperatureRange: -40C ~ 85C; Type: Polar; Ripple Current: 351mA; Value: 330uF; PartId: 25817; Supplier 1: Digi-Key; Supplier Part Number 1: 493-10914-3-ND; ComponentLink1Description: Datasheet; ComponentLink1URL: http://nichicon-us.com/english/products/pdfs/e-ufg.pdf; ComponentLink2Description: Digi-Key Listing; ComponentLink2URL: https://www.digikey.com/product-detail/en/nichicon/UFG1E331MPM1TD/493-10914-3-ND/4317443; Tolerance: 20%; Voltage: 25V; Price: 0.3362; Device Package: Radial, Can, 10mm
footprint CAP AL TH D10 L5 H22
pins: 1, 2

## UFG1E471MHM1TO
designator C?, comment 470uF  (value not drawn)
CAP ALUM 470UF 20% 25V RADIAL; Part Number: UFG1E471MHM1TO; Manufacturer: Nichicon; TemperatureRange: -40C ~ 85C; Type: Polar; Ripple Current: 476mA; Value: 470uF; PartId: 23440; Supplier 1: Digi-Key; Supplier Part Number 1: 493-10909-1-ND; ComponentLink1Description: Datasheet; ComponentLink1URL: http://nichicon-us.com/english/products/pdfs/e-ufg.pdf; ComponentLink2Description: Digi-Key Listing; ComponentLink2URL: https://www.digikey.com/product-detail/en/nichicon/UFG1E471MHM1TO/493-10909-1-ND/4317836; Tolerance: 20%; Voltage: 25V; Price: 1.03; Device Package: Radial, Can, 12.5mm
footprint CAP AL TH D12.5 L5 H22
pins: 1, 2

## UFG1H101MPM1TD
designator C?, comment 100uF  (value not drawn)
CAP ALUM 100UF 20% 50V RADIAL; Part Number: UFG1H101MPM1TD; Manufacturer: Nichicon; TemperatureRange: -40C ~ 85C; Type: Polar; Ripple Current: 215mA; Value: 100uF; PartId: 25116; Supplier 1: Digi-Key; Supplier Part Number 1: 493-10919-3-ND; ComponentLink1Description: Datasheet; ComponentLink1URL: http://nichicon-us.com/english/products/pdfs/e-ufg.pdf; ComponentLink2Description: Digi-Key Listing; ComponentLink2URL: https://www.digikey.com/product-detail/en/nichicon/UFG1H101MPM1TD/493-10919-3-ND/4317448; Tolerance: 20%; Voltage: 50V; Price: 0.3116; Device Package: Radial, Can, 10mm
footprint CAP AL TH D10 L5 H17.5
pins: 1, 2

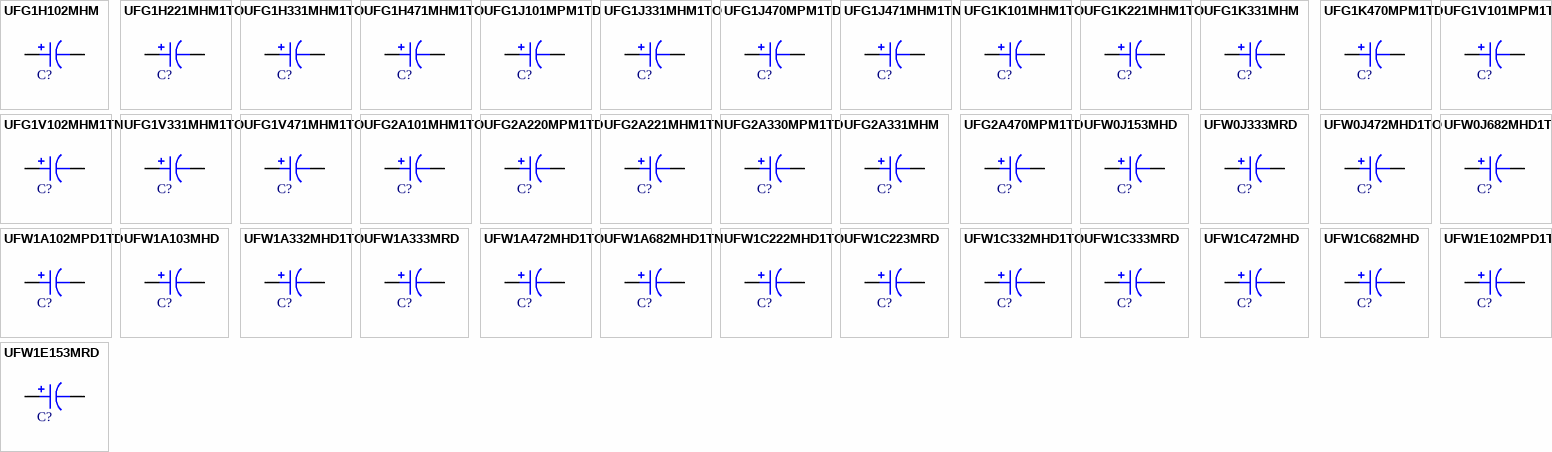
[diagram p68: symbols UFG1H102MHM to UFW1E153MRD]

## UFG1H102MHM
designator C?, comment 1000uF  (value not drawn)
CAP ALUM 1000UF 20% 50V RADIAL; Part Number: UFG1H102MHM; Manufacturer: Nichicon; TemperatureRange: -40C ~ 85C; Type: Polar; Ripple Current: 1.143A; Value: 1000uF; PartId: 27076; Supplier 1: Digi-Key; Supplier Part Number 1: 493-10898-ND; ComponentLink1Description: Datasheet; ComponentLink1URL: http://nichicon-us.com/english/products/pdfs/e-ufg.pdf; ComponentLink2Description: Digi-Key Listing; ComponentLink2URL: https://www.digikey.com/product-detail/en/nichicon/UFG1H102MHM/493-10898-ND/2597957; Tolerance: 20%; Voltage: 50V; Price: 1.66; Device Package: Radial, Can, 16mm
footprint CAP AL TH D16 L7.5 H33.5
pins: 1, 2

## UFG1H221MHM1TO
designator C?, comment 220uF  (value not drawn)
CAP ALUM 220UF 20% 50V RADIAL; Part Number: UFG1H221MHM1TO; Manufacturer: Nichicon; TemperatureRange: -40C ~ 85C; Type: Polar; Ripple Current: 390mA; Value: 220uF; PartId: 23441; Supplier 1: Digi-Key; Supplier Part Number 1: 493-10910-1-ND; ComponentLink1Description: Datasheet; ComponentLink1URL: http://nichicon-us.com/english/products/pdfs/e-ufg.pdf; ComponentLink2Description: Digi-Key Listing; ComponentLink2URL: https://www.digikey.com/product-detail/en/nichicon/UFG1H221MHM1TO/493-10910-1-ND/4317837; Tolerance: 20%; Voltage: 50V; Price: 1.03; Device Package: Radial, Can, 12.5mm
footprint CAP AL TH D12.5 L5 H22
pins: 1, 2

## UFG1H331MHM1TO
designator C?, comment 330uF  (value not drawn)
CAP ALUM 330UF 20% 50V RADIAL; Part Number: UFG1H331MHM1TO; Manufacturer: Nichicon; TemperatureRange: -40C ~ 85C; Type: Polar; Ripple Current: 488mA; Value: 330uF; PartId: 23442; Supplier 1: Digi-Key; Supplier Part Number 1: 493-10911-1-ND; ComponentLink1Description: Datasheet; ComponentLink1URL: http://nichicon-us.com/english/products/pdfs/e-ufg.pdf; ComponentLink2Description: Digi-Key Listing; ComponentLink2URL: https://www.digikey.com/product-detail/en/nichicon/UFG1H331MHM1TO/493-10911-1-ND/4317838; Tolerance: 20%; Voltage: 50V; Price: 1.03; Device Package: Radial, Can, 12.5mm
footprint CAP AL TH D12.5 L5 H22
pins: 1, 2

## UFG1H471MHM1TO
designator C?, comment 470uF  (value not drawn)
CAP ALUM 470UF 20% 50V RADIAL; Part Number: UFG1H471MHM1TO; Manufacturer: Nichicon; TemperatureRange: -40C ~ 85C; Type: Polar; Ripple Current: 650mA; Value: 470uF; PartId: 26796; Supplier 1: Digi-Key; Supplier Part Number 1: 493-10888-3-ND; ComponentLink1Description: Datasheet; ComponentLink1URL: http://nichicon-us.com/english/products/pdfs/e-ufg.pdf; ComponentLink2Description: Digi-Key Listing; ComponentLink2URL: https://www.digikey.com/product-detail/en/nichicon/UFG1H471MHM1TO/493-10888-3-ND/4317434; Tolerance: 20%; Voltage: 50V; Price: 0.7072; Device Package: Radial, Can, 16mm
footprint CAP AL TH D16 L7.5 H27
pins: 1, 2

## UFG1J101MPM1TD
designator C?, comment 100uF  (value not drawn)
CAP ALUM 100UF 20% 63V RADIAL; Part Number: UFG1J101MPM1TD; Manufacturer: Nichicon; TemperatureRange: -40C ~ 85C; Type: Polar; Ripple Current: 255mA; Value: 100uF; PartId: 25818; Supplier 1: Digi-Key; Supplier Part Number 1: 493-10874-3-ND; ComponentLink1Description: Datasheet; ComponentLink1URL: http://nichicon-us.com/english/products/pdfs/e-ufg.pdf; ComponentLink2Description: Digi-Key Listing; ComponentLink2URL: https://www.digikey.com/product-detail/en/nichicon/UFG1J101MPM1TD/493-10874-3-ND/4318036; Tolerance: 20%; Voltage: 63V; Price: 0.3374; Device Package: Radial, Can, 10mm
footprint CAP AL TH D10 L5 H22
pins: 1, 2

## UFG1J331MHM1TO
designator C?, comment 330uF  (value not drawn)
CAP ALUM 330UF 20% 63V RADIAL; Part Number: UFG1J331MHM1TO; Manufacturer: Nichicon; TemperatureRange: -40C ~ 85C; Type: Polar; Ripple Current: 541mA; Value: 330uF; PartId: 23816; Supplier 1: Digi-Key; Supplier Part Number 1: 493-10879-3-ND; ComponentLink1Description: Datasheet; ComponentLink1URL: http://nichicon-us.com/english/products/pdfs/e-ufg.pdf; ComponentLink2Description: Digi-Key Listing; ComponentLink2URL: https://www.digikey.com/product-detail/en/nichicon/UFG1J331MHM1TO/493-10879-3-ND/4318041; Tolerance: 20%; Voltage: 63V; Price: 0.4279; Device Package: Radial, Can, 12.5mm
footprint CAP AL TH D12.5 L5 H27
pins: 1, 2

## UFG1J470MPM1TD
designator C?, comment 47uF  (value not drawn)
CAP ALUM 47UF 20% 63V RADIAL; Part Number: UFG1J470MPM1TD; Manufacturer: Nichicon; TemperatureRange: -40C ~ 85C; Type: Polar; Ripple Current: 140mA; Value: 47uF; PartId: 24612; Supplier 1: Digi-Key; Supplier Part Number 1: 493-10869-3-ND; ComponentLink1Description: Datasheet; ComponentLink1URL: http://nichicon-us.com/english/products/pdfs/e-ufg.pdf; ComponentLink2Description: Digi-Key Listing; ComponentLink2URL: https://www.digikey.com/product-detail/en/nichicon/UFG1J470MPM1TD/493-10869-3-ND/4318031; Tolerance: 20%; Voltage: 63V; Price: 0.1976; Device Package: Radial, Can, 10mm
footprint CAP AL TH D10 L5 H14.5
pins: 1, 2

## UFG1J471MHM1TN
designator C?, comment 470uF  (value not drawn)
CAP ALUM 470UF 20% 63V RADIAL; Part Number: UFG1J471MHM1TN; Manufacturer: Nichicon; TemperatureRange: -40C ~ 85C; Type: Polar; Ripple Current: 840mA; Value: 470uF; PartId: 26799; Supplier 1: Digi-Key; Supplier Part Number 1: 493-10883-3-ND; ComponentLink1Description: Datasheet; ComponentLink1URL: http://nichicon-us.com/english/products/pdfs/e-ufg.pdf; ComponentLink2Description: Digi-Key Listing; ComponentLink2URL: https://www.digikey.com/product-detail/en/nichicon/UFG1J471MHM1TN/493-10883-3-ND/4318045; Tolerance: 20%; Voltage: 63V; Price: 0.7426; Device Package: Radial, Can, 16mm
footprint CAP AL TH D16 L7.5 H27
pins: 1, 2

## UFG1K101MHM1TO
designator C?, comment 100uF  (value not drawn)
CAP ALUM 100UF 20% 80V RADIAL; Part Number: UFG1K101MHM1TO; Manufacturer: Nichicon; TemperatureRange: -40C ~ 85C; Type: Polar; Ripple Current: 270mA; Value: 100uF; PartId: 23177; Supplier 1: Digi-Key; Supplier Part Number 1: 493-10877-3-ND; ComponentLink1Description: Datasheet; ComponentLink1URL: http://nichicon-us.com/english/products/pdfs/e-ufg.pdf; ComponentLink2Description: Digi-Key Listing; ComponentLink2URL: https://www.digikey.com/product-detail/en/nichicon/UFG1K101MHM1TO/493-10877-3-ND/4318039; Tolerance: 20%; Voltage: 80V; Price: 0.3688; Device Package: Radial, Can, 12.5mm
footprint CAP AL TH D12.5 L5 H22
pins: 1, 2

## UFG1K221MHM1TO
designator C?, comment 220uF  (value not drawn)
CAP ALUM 220UF 20% 80V RADIAL; Part Number: UFG1K221MHM1TO; Manufacturer: Nichicon; TemperatureRange: -40C ~ 85C; Type: Polar; Ripple Current: 490mA; Value: 220uF; PartId: 23830; Supplier 1: Digi-Key; Supplier Part Number 1: 493-10880-3-ND; ComponentLink1Description: Datasheet; ComponentLink1URL: http://nichicon-us.com/english/products/pdfs/e-ufg.pdf; ComponentLink2Description: Digi-Key Listing; ComponentLink2URL: https://www.digikey.com/product-detail/en/nichicon/UFG1K221MHM1TO/493-10880-3-ND/4318042; Tolerance: 20%; Voltage: 80V; Price: 0.4602; Device Package: Radial, Can, 12.5mm
footprint CAP AL TH D12.5 L5 H27
pins: 1, 2

## UFG1K331MHM
designator C?, comment 330uF  (value not drawn)
CAP ALUM 330UF 20% 80V RADIAL; Part Number: UFG1K331MHM; Manufacturer: Nichicon; TemperatureRange: -40C ~ 85C; Type: Polar; Ripple Current: 650mA; Value: 330uF; PartId: 27064; Supplier 1: Digi-Key; Supplier Part Number 1: 493-10900-ND; ComponentLink1Description: Datasheet; ComponentLink1URL: http://nichicon-us.com/english/products/pdfs/e-ufg.pdf; ComponentLink2Description: Digi-Key Listing; ComponentLink2URL: https://www.digikey.com/product-detail/en/nichicon/UFG1K331MHM/493-10900-ND/4318013; Tolerance: 20%; Voltage: 80V; Price: 1.62; Device Package: Radial, Can, 16mm
footprint CAP AL TH D16 L7.5 H33.5
pins: 1, 2

## UFG1K470MPM1TD
designator C?, comment 47uF  (value not drawn)
CAP ALUM 47UF 20% 80V RADIAL; Part Number: UFG1K470MPM1TD; Manufacturer: Nichicon; TemperatureRange: -40C ~ 85C; Type: Polar; Ripple Current: 170mA; Value: 47uF; PartId: 25113; Supplier 1: Digi-Key; Supplier Part Number 1: 493-10872-3-ND; ComponentLink1Description: Datasheet; ComponentLink1URL: http://nichicon-us.com/english/products/pdfs/e-ufg.pdf; ComponentLink2Description: Digi-Key Listing; ComponentLink2URL: https://www.digikey.com/product-detail/en/nichicon/UFG1K470MPM1TD/493-10872-3-ND/4318034; Tolerance: 20%; Voltage: 80V; Price: 0.3093; Device Package: Radial, Can, 10mm
footprint CAP AL TH D10 L5 H17.5
pins: 1, 2

## UFG1V101MPM1TD
designator C?, comment 100uF  (value not drawn)
CAP ALUM 100UF 20% 35V RADIAL; Part Number: UFG1V101MPM1TD; Manufacturer: Nichicon; TemperatureRange: -40C ~ 85C; Type: Polar; Ripple Current: 176mA; Value: 100uF; PartId: 24617; Supplier 1: Digi-Key; Supplier Part Number 1: 493-10925-3-ND; ComponentLink1Description: Datasheet; ComponentLink1URL: http://nichicon-us.com/english/products/pdfs/e-ufg.pdf; ComponentLink2Description: Digi-Key Listing; ComponentLink2URL: https://www.digikey.com/product-detail/en/nichicon/UFG1V101MPM1TD/493-10925-3-ND/4317454; Tolerance: 20%; Voltage: 35V; Price: 0.1976; Device Package: Radial, Can, 10mm
footprint CAP AL TH D10 L5 H14.5
pins: 1, 2

## UFG1V102MHM1TN
designator C?, comment 1000uF  (value not drawn)
CAP ALUM 1000UF 20% 35V RADIAL; Part Number: UFG1V102MHM1TN; Manufacturer: Nichicon; TemperatureRange: -40C ~ 85C; Type: Polar; Ripple Current: 1.06A; Value: 1000uF; PartId: 26788; Supplier 1: Digi-Key; Supplier Part Number 1: 493-10881-3-ND; ComponentLink1Description: Datasheet; ComponentLink1URL: http://nichicon-us.com/english/products/pdfs/e-ufg.pdf; ComponentLink2Description: Digi-Key Listing; ComponentLink2URL: https://www.digikey.com/product-detail/en/nichicon/UFG1V102MHM1TN/493-10881-3-ND/4318043; Tolerance: 20%; Voltage: 35V; Price: 0.6726; Device Package: Radial, Can, 16mm
footprint CAP AL TH D16 L7.5 H27
pins: 1, 2